# EAGLE library part ESP32-WROVER-E/IE (library my-EspressifSystems)
WiFi Modules - 802.11 SMD Module ESP32-WROVER-E, ESP32-D0WD-V3, 3.3V 64Mbit PSRAM, 8/16 MB SPI flash, PCB Antenna
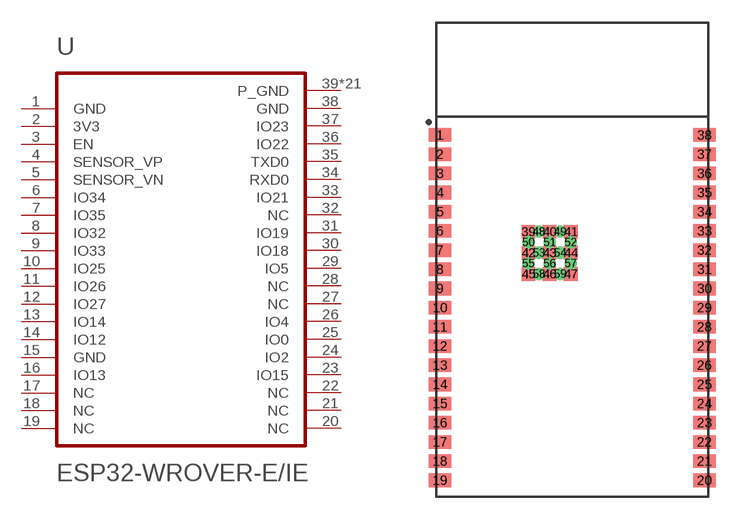
[diagram p1: symbol with the pads of ESP32-WROVER-E/IE; footprint ESP32-WROVER-E/IE]

Designator prefix -

## ESP32-WROVER-E/IE  [ESP32-WROVER-E/IE]
1  GND
2  3V3
3  EN
4  SENSOR_VP
5  SENSOR_VN
6  IO34
7  IO35
8  IO32
9  IO33
10  IO25
11  IO26
12  IO27
13  IO14
14  IO12
15  GND
16  IO13
17  NC
18  NC
19  NC
20  NC
21  NC
22  NC
23  IO15
24  IO2
25  IO0
26  IO4
27  NC
28  NC
29  IO5
30  IO18
31  IO19
32  NC
33  IO21
34  RXD0
35  TXD0
36  IO22
37  IO23
38  GND
39  P_GND
40  P_GND
41  P_GND
42  P_GND
43  P_GND
44  P_GND
45  P_GND
46  P_GND
47  P_GND
48  P_GND
49  P_GND
50  P_GND
51  P_GND
52  P_GND
53  P_GND
54  P_GND
55  P_GND
56  P_GND
57  P_GND
58  P_GND
59  P_GND

## Footprint ESP32-WROVER-E/IE (pad centres in mm)
smd 1.5 x 0.9: 1 0.25,-7.44; 2 0.25,-8.71; 3 0.25,-9.98; 4 0.25,-11.25; 5 0.25,-12.52; 6 0.25,-13.79; 7 0.25,-15.06; 8 0.25,-16.33; 9 0.25,-17.6; 10 0.25,-18.87; 11 0.25,-20.14; 12 0.25,-21.41; 13 0.25,-22.68; 14 0.25,-23.95; 15 0.25,-25.22; 16 0.25,-26.49; 17 0.25,-27.76; 18 0.25,-29.03; 19 0.25,-30.3; 20 17.75,-30.3; 21 17.75,-29.03; 22 17.75,-27.76; 23 17.75,-26.49; 24 17.75,-25.22; 25 17.75,-23.95; 26 17.75,-22.68; 27 17.75,-21.41; 28 17.75,-20.14; 29 17.75,-18.87; 30 17.75,-17.6; 31 17.75,-16.33; 32 17.75,-15.06; 33 17.75,-13.79; 34 17.75,-12.52; 35 17.75,-11.25; 36 17.75,-9.98; 37 17.75,-8.71; 38 17.75,-7.44
smd 0.9 x 0.9: 39 6.1,-13.84; 40 7.5,-13.84; 41 8.9,-13.84; 42 6.1,-15.24; 43 7.5,-15.24; 44 8.9,-15.24; 45 6.1,-16.64; 46 7.5,-16.64; 47 8.9,-16.64
drill 0.3: 48 6.8,-13.84; 49 8.2,-13.84; 50 6.1,-14.54; 51 7.5,-14.54; 52 8.9,-14.54; 53 6.8,-15.24; 54 8.2,-15.24; 55 6.09,-15.94; 56 7.5,-15.94; 57 8.9,-15.94; 58 6.8,-16.64; 59 8.2,-16.64